# Altium footprint library PcbLib1.PcbLib: 1 footprints
Each footprint in its own frame and in the unit in brackets; x right, y up, seen from the top. Pads: shape width x height; smd on the part's side, far side on the other; paste and mask are expansions set on the pad; w line width, h text height; cw(c..) or ccw(c..) is an arc to the next point about the centre after c.
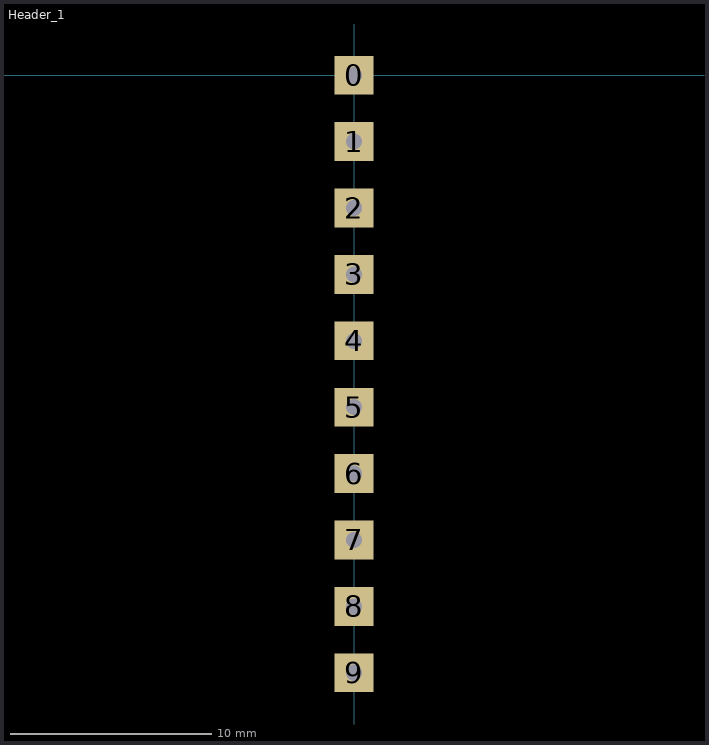
[diagram p0: the footprint, top view; thin cyan lines are the x and y axes]

## Header_1 [mil]
pads (10):
  rect 76x76 / inner round 76 / far side round 76 hole 31.5: 0(0,0) 1(0,-130) 2(0,-260) 3(0,-390) 4(0,-520) 5(0,-650) 6(0,-780) 7(0,-910) 8(0,-1040) 9(0,-1170)